# Altium footprint library BSPO.PcbLib: 178 footprints (part 2 of 12)
Each footprint in its own frame and in the unit in brackets; x right, y up, seen from the top. Pads: shape width x height; smd on the part's side, far side on the other; paste and mask are expansions set on the pad; w line width, h text height; cw(c..) or ccw(c..) is an arc to the next point about the centre after c.
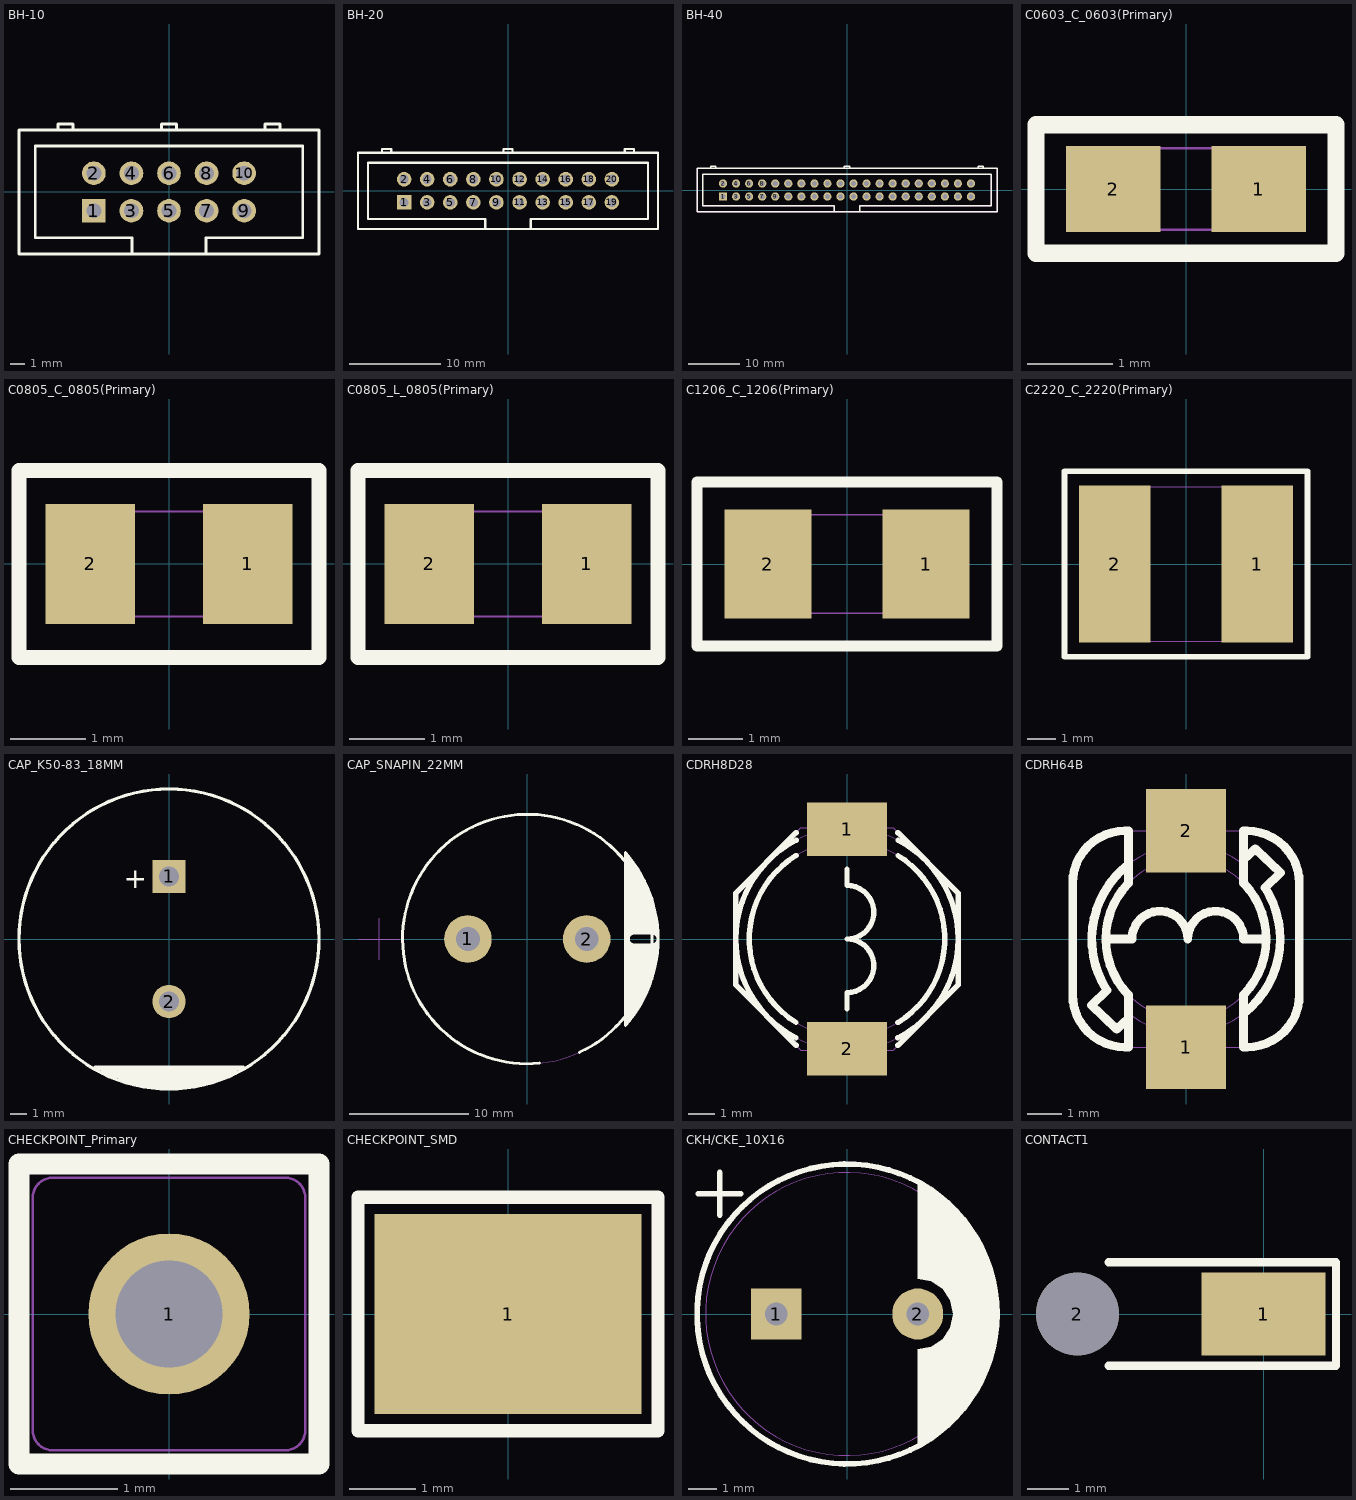
[diagram p1: the footprints below, top view; thin cyan lines are the x and y axes]

## BH-10 [mm]
pads (10):
  rect 1.6x1.6 hole 1: 1(-5.08,-1.27)
  round 1.6 hole 1: 2(-5.08,1.27) 3(-2.54,-1.27) 4(-2.54,1.27) 5(0,-1.27) 6(0,1.27) 7(2.54,-1.27) 8(2.54,1.27) 9(5.08,-1.27) 10(5.08,1.27)
Top Overlay:
  lines w0.2: -7.5,4.2 -7.5,4.6 -6.5,4.6 -6.5,4.2 ; -2.5,-4.2 -2.5,-3.1 -9.05,-3.1 -9.05,3.1 9.05,3.1 9.05,-3.1 2.5,-3.1 2.5,-4.2 ; -0.5,4.2 -0.5,4.6 0.5,4.6 0.5,4.2 ; 6.5,4.2 6.5,4.6 7.5,4.6 7.5,4.2 ; -10.15,-4.2 10.15,-4.2 10.15,4.2 -10.15,4.2 -10.15,-4.2
Mechanical 1:
  lines w0.02: -7.5,4.2 -7.5,4.6 -6.5,4.6 -6.5,4.2 ; -2.5,-4.2 -2.5,-3.1 -9.05,-3.1 -9.05,3.1 9.05,3.1 9.05,-3.1 2.5,-3.1 2.5,-4.2 ; -0.5,4.2 -0.5,4.6 0.5,4.6 0.5,4.2 ; 6.5,4.2 6.5,4.6 7.5,4.6 7.5,4.2 ; -10.15,-4.2 10.15,-4.2 10.15,4.2 -10.15,4.2 -10.15,-4.2 ; -5.4,-1.59 -4.76,-1.59 -4.76,-0.95 -5.4,-0.95 -5.4,-1.59 ; -5.4,0.95 -4.76,0.95 -4.76,1.59 -5.4,1.59 -5.4,0.95 ; -2.86,-1.59 -2.22,-1.59 -2.22,-0.95 -2.86,-0.95 -2.86,-1.59 ; -2.86,0.95 -2.86,1.59 -2.22,1.59 -2.22,0.95 -2.86,0.95 ; -0.32,-1.59 0.32,-1.59 0.32,-0.95 -0.32,-0.95 -0.32,-1.59 ; -0.32,0.95 0.32,0.95 0.32,1.59 -0.32,1.59 -0.32,0.95 ; 2.22,-1.59 2.86,-1.59 2.86,-0.95 2.22,-0.95 2.22,-1.59 ; 2.22,0.95 2.86,0.95 2.86,1.59 2.22,1.59 2.22,0.95 ; 4.76,-1.59 5.4,-1.59 5.4,-0.95 4.76,-0.95 4.76,-1.59 ; 4.76,0.95 4.76,1.59 5.4,1.59 5.4,0.95 4.76,0.95

## BH-20 [mm]
pads (20):
  rect 1.6x1.6 hole 1: 1(-11.43,-1.27)
  round 1.6 hole 1: 2(-11.43,1.27) 3(-8.89,-1.27) 4(-8.89,1.27) 5(-6.35,-1.27) 6(-6.35,1.27) 7(-3.81,-1.27) 8(-3.81,1.27) 9(-1.27,-1.27) 10(-1.27,1.27) 11(1.27,-1.27) 12(1.27,1.27) 13(3.81,-1.27) 14(3.81,1.27) 15(6.35,-1.27) 16(6.35,1.27) 17(8.89,-1.27) 18(8.89,1.27) 19(11.43,-1.27) 20(11.43,1.27)
Top Overlay:
  lines w0.25: -13.85,4.2 -13.85,4.6 -12.85,4.6 -12.85,4.2 ; -2.5,-4.2 -2.5,-3.1 -15.4,-3.1 -15.4,3.1 15.4,3.1 15.4,-3.1 2.5,-3.1 2.5,-4.2 ; -0.5,4.2 -0.5,4.6 0.5,4.6 0.5,4.2 ; 12.85,4.2 12.85,4.6 13.85,4.6 13.85,4.2 ; -16.5,-4.2 16.5,-4.2 16.5,4.2 -16.5,4.2 -16.5,-4.2
Mechanical 1:
  lines w0.025: -13.85,4.2 -13.85,4.6 -12.85,4.6 -12.85,4.2 ; -2.5,-4.2 -2.5,-3.1 -15.4,-3.1 -15.4,3.1 15.4,3.1 15.4,-3.1 2.5,-3.1 2.5,-4.2 ; -0.5,4.2 -0.5,4.6 0.5,4.6 0.5,4.2 ; 12.85,4.2 12.85,4.6 13.85,4.6 13.85,4.2 ; -16.5,-4.2 16.5,-4.2 16.5,4.2 -16.5,4.2 -16.5,-4.2 ; -11.75,-1.59 -11.75,-0.95 -11.11,-0.95 -11.11,-1.59 -11.75,-1.59 ; -11.75,0.95 -11.75,1.59 -11.11,1.59 -11.11,0.95 -11.75,0.95 ; -9.21,-1.59 -9.21,-0.95 -8.57,-0.95 -8.57,-1.59 -9.21,-1.59 ; -9.21,0.95 -9.21,1.59 -8.57,1.59 -8.57,0.95 -9.21,0.95 ; -6.67,-1.59 -6.03,-1.59 -6.03,-0.95 -6.67,-0.95 -6.67,-1.59 ; -6.67,0.95 -6.03,0.95 -6.03,1.59 -6.67,1.59 -6.67,0.95 ; -4.13,-1.59 -4.13,-0.95 -3.49,-0.95 -3.49,-1.59 -4.13,-1.59 ; -4.13,0.95 -4.13,1.59 -3.49,1.59 -3.49,0.95 -4.13,0.95 ; -1.59,-1.59 -1.59,-0.95 -0.95,-0.95 -0.95,-1.59 -1.59,-1.59 ; -1.59,0.95 -1.59,1.59 -0.95,1.59 -0.95,0.95 -1.59,0.95 ; 0.95,-1.59 1.59,-1.59 1.59,-0.95 0.95,-0.95 0.95,-1.59 ; 0.95,0.95 1.59,0.95 1.59,1.59 0.95,1.59 0.95,0.95 ; 3.49,-1.59 3.49,-0.95 4.13,-0.95 4.13,-1.59 3.49,-1.59 ; 3.49,0.95 3.49,1.59 4.13,1.59 4.13,0.95 3.49,0.95 ; 6.03,-1.59 6.03,-0.95 6.67,-0.95 6.67,-1.59 6.03,-1.59 ; 6.03,0.95 6.03,1.59 6.67,1.59 6.67,0.95 6.03,0.95 ; 8.57,-1.59 9.21,-1.59 9.21,-0.95 8.57,-0.95 8.57,-1.59 ; 8.57,0.95 9.21,0.95 9.21,1.59 8.57,1.59 8.57,0.95 ; 11.11,-1.59 11.11,-0.95 11.75,-0.95 11.75,-1.59 11.11,-1.59 ; 11.11,0.95 11.11,1.59 11.75,1.59 11.75,0.95 11.11,0.95

## BH-40 [mm]
pads (40):
  rect 1.6x1.6 hole 1: 1(-24.13,-1.27)
  round 1.6 hole 1: 2(-24.13,1.27) 3(-21.59,-1.27) 4(-21.59,1.27) 5(-19.05,-1.27) 6(-19.05,1.27) 7(-16.51,-1.27) 8(-16.51,1.27) 9(-13.97,-1.27) 10(-13.97,1.27) 11(-11.43,-1.27) 12(-11.43,1.27) 13(-8.89,-1.27) 14(-8.89,1.27) 15(-6.35,-1.27) 16(-6.35,1.27) 17(-3.81,-1.27) 18(-3.81,1.27) 19(-1.27,-1.27) 20(-1.27,1.27) 21(1.27,-1.27) 22(1.27,1.27) 23(3.81,-1.27) 24(3.81,1.27) 25(6.35,-1.27) 26(6.35,1.27) 27(8.89,-1.27) 28(8.89,1.27) 29(11.43,-1.27) 30(11.43,1.27) 31(13.97,-1.27) 32(13.97,1.27) 33(16.51,-1.27) 34(16.51,1.27) 35(19.05,-1.27) 36(19.05,1.27) 37(21.59,-1.27) 38(21.59,1.27) 39(24.13,-1.27) 40(24.13,1.27)
Top Overlay:
  lines w0.25: -26.55,4.2 -26.55,4.6 -25.55,4.6 -25.55,4.2 ; -2.5,-4.2 -2.5,-3.1 -28.1,-3.1 -28.1,3.1 28.1,3.1 28.1,-3.1 2.5,-3.1 2.5,-4.2 ; -0.5,4.2 -0.5,4.6 0.5,4.6 0.5,4.2 ; 25.55,4.2 25.55,4.6 26.55,4.6 26.55,4.2 ; -29.2,-4.2 29.2,-4.2 29.2,4.2 -29.2,4.2 -29.2,-4.2
Mechanical 1:
  drawing of 180 lines, arcs and shapes, not listed

## C0603_C_0603(Primary) [mm]
pads (2):
  rect 1.1x1 smd: 1(0.85,0) 2(-0.85,0)
Top Overlay:
  lines w0.2: -1.75,-0.75 1.75,-0.75 1.75,0.75 -1.75,0.75 -1.75,-0.75
Mechanical 1:
  lines w0.025: -0.55,-0.475 -0.55,0.475 ; 0.55,-0.475 0.55,0.475 ; -0.85,-0.475 0.85,-0.475 0.85,0.475 -0.85,0.475 -0.85,-0.475

## C0805_C_0805(Primary) [mm]
pads (2):
  rect 1.2x1.6 smd: 1(1.05,0) 2(-1.05,0)
Top Overlay:
  lines w0.2: -2,-1.25 2,-1.25 2,1.25 -2,1.25 -2,-1.25
Mechanical 1:
  lines w0.025: -0.55,-0.7 -0.55,0.7 ; 0.55,-0.7 0.55,0.7 ; -1.1,-0.7 1.1,-0.7 1.1,0.7 -1.1,0.7 -1.1,-0.7

## C0805_L_0805(Primary) [mm]
pads (2):
  rect 1.2x1.6 smd: 1(1.05,0) 2(-1.05,0)
Top Overlay:
  lines w0.2: -2,-1.25 2,-1.25 2,1.25 -2,1.25 -2,-1.25
Mechanical 1:
  lines w0.025: -0.55,-0.7 -0.55,0.7 ; 0.55,-0.7 0.55,0.7 ; -1.1,-0.7 1.1,-0.7 1.1,0.7 -1.1,0.7 -1.1,-0.7

## C1206_C_1206(Primary) [mm]
pads (2):
  rect 1.6x2 smd: 1(1.45,0) 2(-1.45,0)
Top Overlay:
  lines w0.2: -2.75,-1.5 2.75,-1.5 2.75,1.5 -2.75,1.5 -2.75,-1.5
Mechanical 1:
  lines w0.025: -0.95,-0.9 -0.95,0.9 ; 0.95,-0.9 0.95,0.9 ; -1.7,-0.9 1.7,-0.9 1.7,0.9 -1.7,0.9 -1.7,-0.9

## C2220_C_2220(Primary) [mm]
pads (2):
  rect 2.5x5.5 smd: 1(2.5,0) 2(-2.5,0)
Top Overlay:
  lines w0.2: -4.25,-3.25 4.25,-3.25 4.25,3.25 -4.25,3.25 -4.25,-3.25
Mechanical 1:
  lines w0.025: -1.6,-2.7 -1.6,2.7 ; 1.6,-2.7 1.6,2.7 ; -3.05,-2.7 3.05,-2.7 3.05,2.7 -3.05,2.7 -3.05,-2.7

## CAP_K50-83_18MM [mm]
pads (2):
  rect 2x2 hole 1.2: 1(0,3.75)
  round 2 hole 1.2: 2(0,-3.75)
Top Overlay:
  circle w0.2: c0,0 r9
  lines w0.2: -4.25,-7.75 4.25,-7.75
  lines w0.3: -4.4,-7.75 4.45,-7.75 ; -4,-8 4,-8 ; -3.5,-8.2 3.5,-8.2 ; -2.95,-8.425 2.975,-8.425 ; -2.275,-8.6 2.275,-8.6 ; -1.525,-8.775 1.55,-8.775
  text "+" at -2.72,2.618 h2.12
Mechanical 1:
  circle w0.025: c0,0 r9
  circle w0.025: c0,0 r9
  lines w0.025: -3.475,-8.3 3.475,-8.3 ; -2.8,-8.55 2.8,-8.55 ; -1.875,-8.8 1.875,-8.8

## CAP_SNAPIN_22MM [mm]
pads (2):
  round 4 hole 2: 1(-5,0) 2(5,0)
Top Overlay:
  lines w0.25: 1.025,-10.45 cw(c0,0) 4.388,-9.539 ; 8.247,6.896 cw(c0,0) 10.741,0.431 ; 8.25,-7.276 8.25,7.276 ; 8.251,-7.274 ccw(c0,0) 11,0 ccw(c0,0) 8.277,7.246 ; 8.401,-6.707 ccw(c0,0) 10.741,-0.45 ; 8.5,-6.982 8.5,6.982 ; 8.75,-6.666 8.75,-0.433 ; 8.75,0.433 8.75,6.666 ; 9,-6.325 9,-0.5 ; 9,6.325 9,0.5 ; 9.25,-5.953 9.25,-0.5 ; 9.25,0.5 9.25,5.953 ; 9.5,-5.545 9.5,-0.5 ; 9.5,0.5 9.5,5.545 ; 9.75,-5.093 9.75,-0.5 ; 9.75,0.5 9.75,5.093 ; 10,-4.583 10,-0.5 ; 10,0.5 10,4.583 ; 10.25,-3.992 10.25,-0.5 ; 10.25,0.5 10.25,3.992 ; 10.5,-3.279 10.5,-0.5 ; 10.5,3.279 10.5,0.5 ; 10.75,-2.332 10.75,-0.433 ; 10.75,0.433 10.75,2.332 ; 9,-0.5 cw(c9,0) 9,0.5 ; 9,-0.5 10.5,-0.5 ; 9,0.5 10.5,0.5 ; 10.5,-0.5 ccw(c10.5,0) 10.5,0.5
Mechanical 1:
  circle w0.1: c0,0 r10.5
  lines w0.1: -14.25,0 -10.75,0 ; -12.5,-1.75 -12.5,1.75

## CDRH8D28 [mm]
pads (2):
  rect 3x2 smd: 1(0,4.1) 2(0,-4.1)
Top Overlay:
  lines w0.2: -1.903,-3.688 cw(c0,0) -1.897,3.691 ; -1.902,-3.115 cw(c0,0) -1.896,3.119 ; -1.9,-3.969 -4.15,-1.719 -4.15,1.719 -1.9,3.969 ; 0,-2.6 0,-2 ccw(c0,-1) 0,0 ccw(c0,1) 0,2 0,2.6 ; 1.896,-3.119 ccw(c0,0) 1.902,3.115 ; 1.897,-3.691 ccw(c0,0) 1.903,3.688 ; 1.9,-3.969 4.15,-1.719 4.15,1.719 1.9,3.969
Mechanical 1:
  circle w0.02: c0,0 r4.15
  circle w0.02: c0,0 r3.65
  lines w0.02: -1.25,-4.15 -1.25,-4.35 1.25,-4.35 1.25,-4.15 ; -1.25,4.15 -1.25,4.35 1.25,4.35 1.25,4.15 ; -4.15,-1.719 -4.15,1.719 -1.719,4.15 1.719,4.15 4.15,1.719 4.15,-1.719 1.719,-4.15 -1.719,-4.15 -4.15,-1.719

## CDRH64B [mm]
pads (2):
  rect 2.3x2.4 smd: 1(0,-3.1) 2(0,3.1)
Top Overlay:
  lines w0.25: -2.3,0 -1.55,0 cw(c-0.75,0) 0.05,0 cw(c0.85,0) 1.65,0 2.3,0 cw(c0,0) 1.649,-1.603 ; -2.267,-1.467 cw(c0,0) -1.647,2.139 ; -2.265,-1.47 -2.712,-1.896 -1.987,-2.586 -1.65,-2.265 ; -1.652,-1.601 cw(c0,0) -1.649,1.603 ; -1.65,-1.602 -1.65,-3.1 -1.75,-3.1 cw(c-1.75,-1.6) -3.25,-1.6 -3.25,1.6 cw(c-1.75,1.6) -1.75,3.1 -1.65,3.1 -1.65,1.602 ; 1.647,-2.139 ccw(c0,0) 2.7,0 ; 1.65,-1.602 1.65,-3.1 1.75,-3.1 ccw(c1.75,-1.6) 3.25,-1.6 3.25,1.6 ccw(c1.75,1.6) 1.75,3.1 1.65,3.1 1.65,1.602 ; 1.65,2.265 1.987,2.586 2.712,1.895 2.265,1.47 ; 1.652,1.601 cw(c0,0) 2.3,-0.004 ; 2.267,1.467 cw(c0,0) 2.7,-0.005
Mechanical 1:
  lines w0.025: -2.267,-1.467 cw(c0,0) -0.301,2.683 cw(c0,0) 1.576,2.193 ; -2.265,-1.47 -2.712,-1.896 -1.987,-2.586 -1.575,-2.193 ; -1.576,-2.193 ccw(c0,0) 2.7,-0.005 ccw(c0,0) 2.267,1.467 ; -0.85,-3.1 -0.85,-3.45 0.85,-3.45 0.85,-3.1 ; -0.85,3.1 -0.85,3.45 0.85,3.45 0.85,3.1 ; 1.575,2.193 1.987,2.586 2.712,1.895 2.265,1.47 ; 2.3,-0.004 cw(c0,0) -0.3,2.28 cw(c0,0) 2.3,0 ; -3.25,-1.6 ccw(c-1.75,-1.6) -1.75,-3.1 1.75,-3.1 ccw(c1.75,-1.6) 3.25,-1.6 3.25,1.6 ccw(c1.75,1.6) 1.75,3.1 -1.75,3.1 ccw(c-1.75,1.6) -3.25,1.6 -3.25,-1.6

## CHECKPOINT_Primary [mm]
pads (1):
  round 1.5 hole 1: 1(0,0)
Top Overlay:
  lines w0.2: -1.397,-1.397 1.397,-1.397 1.397,1.397 -1.397,1.397 -1.397,-1.397
Bottom Overlay:
  lines w0.2: -1.397,-1.397 1.397,-1.397 1.397,1.397 -1.397,1.397 -1.397,-1.397
Mechanical 1:
  lines w0.025: -1.27,-1.079 ccw(c-1.079,-1.079) -1.079,-1.27 1.079,-1.27 ccw(c1.079,-1.079) 1.27,-1.079 1.27,1.079 ccw(c1.079,1.079) 1.079,1.27 -1.079,1.27 ccw(c-1.079,1.079) -1.27,1.079 -1.27,-1.079 ; -0.318,-0.318 0.318,-0.318 0.318,0.318 -0.318,0.318 -0.318,-0.318

## CHECKPOINT_SMD [mm]
pads (1):
  rect 4x3 smd: 1(0,0)
Top Overlay:
  lines w0.2: -2.25,-1.75 -2.25,1.75 2.25,1.75 2.25,-1.75 -2.25,-1.75

## CKH/CKE_10X16 [mm]
pads (2):
  rect 1.8x1.8 hole 0.8: 1(-2.5,0)
  round 1.8 hole 0.8: 2(2.5,0)
Top Overlay:
  circle w0.2: c0,0 r5.3
  region: 3.75,0 3.655,-0.478 3.384,-0.884 2.978,-1.155 2.5,-1.25 2.5,-4.75 3.5,-4 4.25,-3.25 5,-1.75 5.25,-1 5.25,0
  region: 5.25,0 5.25,1 5,1.75 4.25,3.25 3.5,4 2.5,4.75 2.5,1.25 2.978,1.155 3.384,0.884 3.655,0.478 3.75,0
  lines w0.2: -5.25,4.25 -3.75,4.25 ; -4.5,3.5 -4.5,5
Mechanical 1:
  circle w0.02: c0,0 r5
  lines w0.02: -5.25,4.25 -3.75,4.25 ; -4.5,3.5 -4.5,5

## CONTACT1 [mm]
pads (2):
  rect 3x2 smd: 1(0,0)
  round 2 hole 2 unplated: 2(-4.5,0)
Top Overlay:
  lines w0.2: -3.75,-1.25 1.75,-1.25 1.75,1.25 -3.75,1.25